# Altium footprint library SPM6545VT-2R2M-D.PcbLib: 1 footprints
Each footprint in its own frame and in the unit in brackets; x right, y up, seen from the top. Pads: shape width x height; smd on the part's side, far side on the other; paste and mask are expansions set on the pad; w line width, h text height; cw(c..) or ccw(c..) is an arc to the next point about the centre after c.
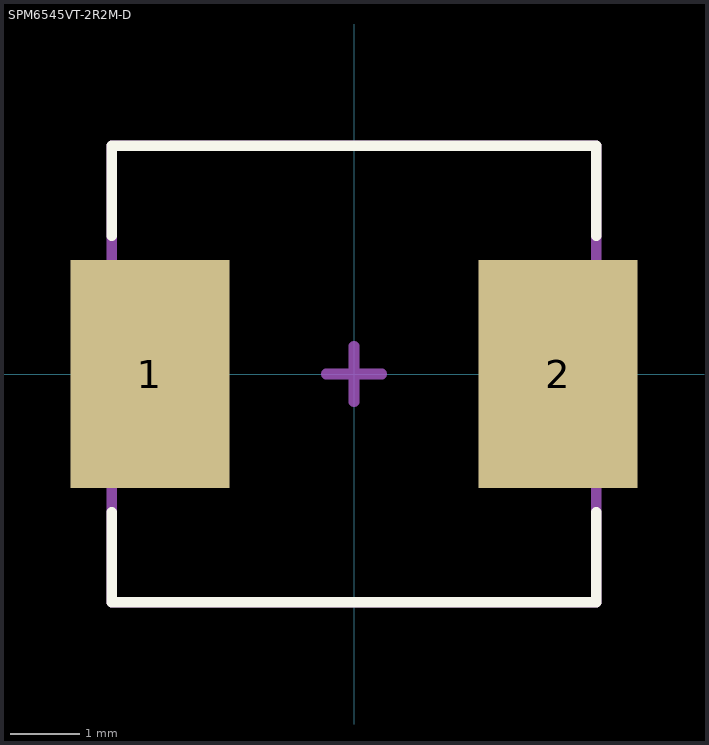
[diagram p0: the footprint, top view; thin cyan lines are the x and y axes]

## SPM6545VT-2R2M-D [mm]
height 4.5
pads (2):
  rect 2.3x3.3 smd mask+0.051: 1(-2.95,0) 2(2.95,0)
Top Overlay:
  lines w0.152: -3.5,-2 -3.5,-3.3 3.5,-3.3 3.5,-2 ; -3.5,2 -3.5,3.3 3.5,3.3 3.5,2
Mechanical 1:
  lines w0.152: -3.5,-3.3 -3.5,1.7 -3.5,3.3 3.5,3.3 3.5,-3.3 -3.5,-3.3
Mechanical 15:
  lines w0.152: -0.4,0 0,0 ; 0,-0.4 0,0 ; 0,0.4 0,0 ; 0.4,0 0,0
3D body "spm6545vt.step": height 4.33, standoff -0.02, extent -3.5,-3.25 3.5,3.25